# EAGLE library part TMS320C6678 (library texas-instruments)
tms320c6678_PG2p0_ac_1149p6 edit this description Auto generated by make-symbol-device-package-bsdl.ulp Rev. 44 Source: tms320c6678_PG2p0_ac_1149p6.bsm
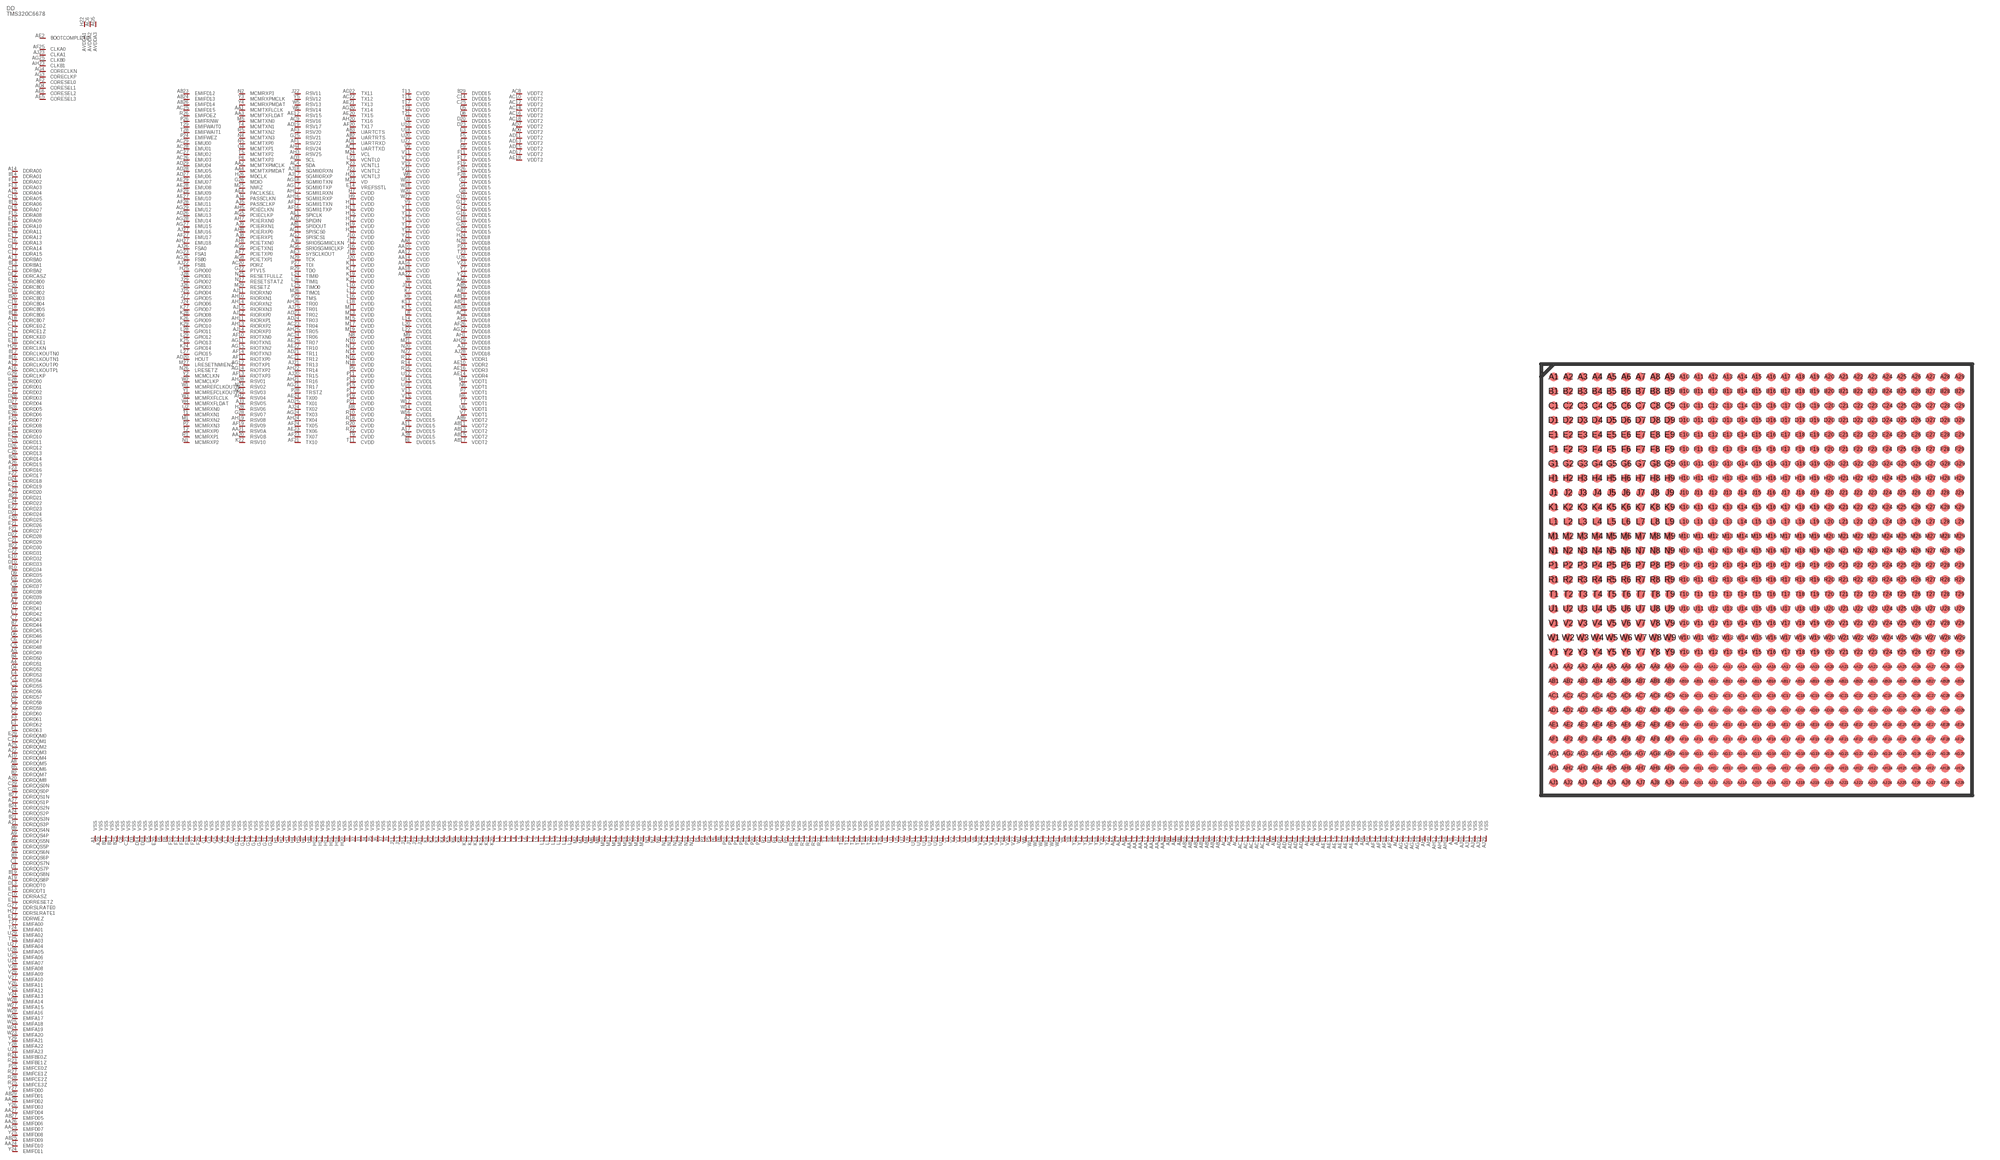
[diagram p29: symbol with the pads of FCBGA841; footprint FCBGA841]

Designator prefix DD

## TMS320C6678  [FCBGA841]
A1  VSS  pas
A2  DVDD15  pas
A3  DDRDQS6N  pas
A4  DDRD51  pas
A5  DDRD49  pas
A6  DDRDQS5N  pas
A7  DDRD40  pas
A8  DDRDQM5  pas
A9  DDRDQS4P  pas
A10  DDRDQM4  pas
A11  DVDD15  pas
A12  DDRCLKOUTP0  pas
A13  DDRBA0  pas
A14  DDRA00  pas
A15  DDRA04  pas
A16  DDRCLKOUTP1  pas
A17  DVDD15  pas
A18  DDRCB07  pas
A19  DDRDQS8P  pas
A20  DDRDQM8  pas
A21  DDRDQS3P  pas
A22  DDRDQM3  pas
A23  DDRD20  pas
A24  DDRDQS2P  pas
A25  DDRDQM2  pas
A26  DDRD15  pas
A27  DDRDQS1P  pas
A28  DVDD15  pas
A29  VSS  pas
AA1  MCMTXFLCLK  pas
AA2  MCMTXPMCLK  pas
AA3  MCMTXFLDAT  pas
AA4  MCMTXPMDAT  pas
AA5  VSS  pas
AA6  DVDD18  pas
AA7  VSS  pas
AA8  CVDD  pas
AA9  VSS  pas
AA10  CVDD  pas
AA11  VSS  pas
AA12  CVDD  pas
AA13  VSS  pas
AA14  CVDD  pas
AA15  VSS  pas
AA16  CVDD  pas
AA17  VSS  pas
AA18  CVDD  pas
AA19  VSS  pas
AA20  RSV0B  pas
AA21  RSV0A  pas
AA22  CVDD  pas
AA23  VSS  pas
AA24  EMIFD10  pas
AA25  EMIFD07  pas
AA26  EMIFD06  pas
AA27  EMIFD04  pas
AA28  VSS  pas
AA29  EMIFD02  pas
AB1  SPIDOUT  pas
AB2  UARTRTS  pas
AB3  UARTCTS  pas
AB4  VSS  pas
AB5  DVDD18  pas
AB6  VSS  pas
AB7  DVDD18  pas
AB8  VSS  pas
AB9  VDDT2  pas
AB10  VSS  pas
AB11  VDDT2  pas
AB12  VSS  pas
AB13  VDDT2  pas
AB14  VSS  pas
AB15  VDDT2  pas
AB16  VSS  pas
AB17  VDDT2  pas
AB18  VSS  pas
AB19  DVDD18  pas
AB20  VSS  pas
AB21  DVDD18  pas
AB22  VSS  pas
AB23  EMIFD12  pas
AB24  EMIFD13  pas
AB25  EMIFD09  pas
AB26  EMIFD14  pas
AB27  EMIFD05  pas
AB28  DVDD18  pas
AB29  EMIFD01  pas
AC1  UARTTXD  pas
AC2  VSS  pas
AC3  DVDD18  pas
AC4  SDA  pas
AC5  VSS  pas
AC6  AVDDA2  pas
AC7  VSS  pas
AC8  VDDT2  pas
AC9  RSV16  pas
AC10  VDDT2  pas
AC11  VSS  pas
AC12  VDDT2  pas
AC13  VSS  pas
AC14  VDDT2  pas
AC15  VSS  pas
AC16  VDDT2  pas
AC17  VSS  pas
AC18  VDDT2  pas
AC19  VSS  pas
AC20  PORZ  pas
AC21  TR12  pas
AC22  TX12  pas
AC23  TR04  pas
AC24  TR06  pas
AC25  EMIFD15  pas
AC26  EMU03  pas
AC27  EMU02  pas
AC28  EMU01  pas
AC29  EMU00  pas
AD1  UARTRXD  pas
AD2  SPIDIN  pas
AD3  SCL  pas
AD4  CORESEL1  pas
AD5  AVDDA3  pas
AD6  VSS  pas
AD7  VDDT2  pas
AD8  VSS  pas
AD9  VDDT2  pas
AD10  VSS  pas
AD11  VDDT2  pas
AD12  VSS  pas
AD13  VDDT2  pas
AD14  VSS  pas
AD15  VDDT2  pas
AD16  VSS  pas
AD17  VDDT2  pas
AD18  VSS  pas
AD19  RSV17  pas
AD20  HOUT  pas
AD21  TR11  pas
AD22  TX11  pas
AD23  TR02  pas
AD24  TR03  pas
AD25  TX01  pas
AD26  EMU13  pas
AD27  EMU06  pas
AD28  EMU05  pas
AD29  EMU04  pas
AE1  SPICLK  pas
AE2  BOOTCOMPLETE  pas
AE3  SYSCLKOUT  pas
AE4  PACLKSEL  pas
AE5  CORESEL3  pas
AE6  CORESEL2  pas
AE7  VSS  pas
AE8  VSS  pas
AE9  VSS  pas
AE10  VDDR2  pas
AE11  VSS  pas
AE12  RSV15  pas
AE13  VSS  pas
AE14  VDDR4  pas
AE15  VSS  pas
AE16  VDDR3  pas
AE17  VSS  pas
AE18  VDDT2  pas
AE19  VSS  pas
AE20  TX15  pas
AE21  TX13  pas
AE22  TR10  pas
AE23  TX06  pas
AE24  TX00  pas
AE25  TR07  pas
AE26  VSS  pas
AE27  EMU10  pas
AE28  EMU08  pas
AE29  EMU07  pas
AF1  RSV22  pas
AF2  CORESEL0  pas
AF3  RSV20  pas
AF4  VSS  pas
AF5  DVDD18  pas
AF6  VSS  pas
AF7  PCIETXP0  pas
AF8  PCIETXN0  pas
AF9  VSS  pas
AF10  RIOTXN0  pas
AF11  RIOTXP0  pas
AF12  VSS  pas
AF13  RIOTXP3  pas
AF14  RIOTXN3  pas
AF15  VSS  pas
AF16  SGMII1TXP  pas
AF17  SGMII1TXN  pas
AF18  VSS  pas
AF19  RSV09  pas
AF20  TX17  pas
AF21  TX10  pas
AF22  VSS  pas
AF23  TX07  pas
AF24  TX05  pas
AF25  CLKA0  pas
AF26  DVDD18  pas
AF27  EMU17  pas
AF28  EMU11  pas
AF29  EMU09  pas
AG1  SPISCS0  pas
AG2  SPISCS1  pas
AG3  CORECLKP  pas
AG4  CORECLKN  pas
AG5  PCIECLKP  pas
AG6  SRIOSGMIICLKP  pas
AG7  VSS  pas
AG8  PCIETXP1  pas
AG9  PCIETXN1  pas
AG10  VSS  pas
AG11  RIOTXN1  pas
AG12  RIOTXP1  pas
AG13  VSS  pas
AG14  RIOTXP2  pas
AG15  RIOTXN2  pas
AG16  VSS  pas
AG17  SGMII0TXP  pas
AG18  SGMII0TXN  pas
AG19  VSS  pas
AG20  TX14  pas
AG21  TR17  pas
AG22  DVDD18  pas
AG23  FSA1  pas
AG24  TX03  pas
AG25  CLKB0  pas
AG26  FSB0  pas
AG27  EMU15  pas
AG28  EMU14  pas
AG29  EMU12  pas
AH1  DVDD18  pas
AH2  RSV04  pas
AH3  RSV25  pas
AH4  RSV24  pas
AH5  PCIECLKN  pas
AH6  VSS  pas
AH7  PCIERXN0  pas
AH8  PCIERXP0  pas
AH9  VSS  pas
AH10  RIORXN1  pas
AH11  RIORXP1  pas
AH12  VSS  pas
AH13  RIORXP2  pas
AH14  RIORXN2  pas
AH15  VSS  pas
AH16  SGMII1RXP  pas
AH17  SGMII1RXN  pas
AH18  VSS  pas
AH19  RSV08  pas
AH20  TX16  pas
AH21  TR16  pas
AH22  TR14  pas
AH23  CLKB1  pas
AH24  TX04  pas
AH25  TR05  pas
AH26  TR00  pas
AH27  EMU18  pas
AH28  RSV01  pas
AH29  DVDD18  pas
AJ1  VSS  pas
AJ2  DVDD18  pas
AJ3  RSV05  pas
AJ4  PASSCLKN  pas
AJ5  PASSCLKP  pas
AJ6  SRIOSGMIICLKN  pas
AJ7  VSS  pas
AJ8  PCIERXP1  pas
AJ9  PCIERXN1  pas
AJ10  VSS  pas
AJ11  RIORXN0  pas
AJ12  RIORXP0  pas
AJ13  VSS  pas
AJ14  RIORXP3  pas
AJ15  RIORXN3  pas
AJ16  VSS  pas
AJ17  SGMII0RXP  pas
AJ18  SGMII0RXN  pas
AJ19  VSS  pas
AJ20  TR15  pas
AJ21  TR13  pas
AJ22  FSB1  pas
AJ23  CLKA1  pas
AJ24  TX02  pas
AJ25  TR01  pas
AJ26  FSA0  pas
AJ27  EMU16  pas
AJ28  DVDD18  pas
AJ29  VSS  pas
B1  DVDD15  pas
B2  DDRDQM7  pas
B3  DDRDQS6P  pas
B4  DDRD50  pas
B5  DDRDQM6  pas
B6  DDRDQS5P  pas
B7  DDRD44  pas
B8  DDRD38  pas
B9  DDRDQS4N  pas
B10  DDRD34  pas
B11  VSS  pas
B12  DDRCLKOUTN0  pas
B13  DDRBA1  pas
B14  DDRA01  pas
B15  DDRA06  pas
B16  DDRCLKOUTN1  pas
B17  VSS  pas
B18  DDRCB06  pas
B19  DDRDQS8N  pas
B20  DDRCB03  pas
B21  DDRDQS3N  pas
B22  DDRD30  pas
B23  DDRD21  pas
B24  DDRDQS2N  pas
B25  VSS  pas
B26  DDRD14  pas
B27  DDRDQS1N  pas
B28  DDRD05  pas
B29  DVDD15  pas
C1  DDRDQS7N  pas
C2  DDRD59  pas
C3  DDRD55  pas
C4  DDRD54  pas
C5  DDRD48  pas
C6  DDRD47  pas
C7  DDRD43  pas
C8  VSS  pas
C9  DDRD37  pas
C10  DDRRASZ  pas
C11  DDRCE0Z  pas
C12  DDRCE1Z  pas
C13  DDRBA2  pas
C14  DVDD15  pas
C15  DDRA05  pas
C16  DDRA13  pas
C17  DDRA15  pas
C18  DDRCB05  pas
C19  DDRCB04  pas
C20  DDRCB01  pas
C21  DDRD29  pas
C22  DDRD31  pas
C23  VSS  pas
C24  DDRD22  pas
C25  DVDD15  pas
C26  DDRD13  pas
C27  DDRDQM1  pas
C28  DDRDQS0P  pas
C29  DDRDQS0N  pas
D1  DDRDQS7P  pas
D2  DDRD57  pas
D3  VSS  pas
D4  DDRD52  pas
D5  DVDD15  pas
D6  DDRD46  pas
D7  DDRD41  pas
D8  DVDD15  pas
D9  DDRD35  pas
D10  DDRD33  pas
D11  DDRCKE0  pas
D12  DDRCASZ  pas
D13  DDRODT0  pas
D14  VSS  pas
D15  DDRA07  pas
D16  DDRA11  pas
D17  DDRA14  pas
D18  VSS  pas
D19  DDRCB02  pas
D20  DVDD15  pas
D21  DDRD24  pas
D22  DDRD28  pas
D23  DVDD15  pas
D24  DDRD18  pas
D25  DDRD11  pas
D26  DDRD12  pas
D27  DDRD04  pas
D28  DDRD03  pas
D29  DDRD01  pas
E1  DDRD62  pas
E2  DDRD58  pas
E3  DVDD15  pas
E4  DDRD53  pas
E5  VSS  pas
E6  DDRD45  pas
E7  DDRD42  pas
E8  DDRD39  pas
E9  DDRD36  pas
E10  DDRD32  pas
E11  DDRRESETZ  pas
E12  DDRWEZ  pas
E13  DDRODT1  pas
E14  VREFSSTL  pas
E15  DDRA09  pas
E16  DDRA10  pas
E17  DDRA12  pas
E18  DDRCKE1  pas
E19  DDRCB00  pas
E20  VSS  pas
E21  DDRD26  pas
E22  DDRD23  pas
E23  DDRD19  pas
E24  DDRD09  pas
E25  DDRD10  pas
E26  DDRD06  pas
E27  DDRD02  pas
E28  DDRD00  pas
E29  DDRDQM0  pas
F1  DDRD63  pas
F2  DDRD60  pas
F3  DDRD61  pas
F4  DDRD56  pas
F5  DVDD15  pas
F6  VSS  pas
F7  DVDD15  pas
F8  VSS  pas
F9  DVDD15  pas
F10  VSS  pas
F11  DVDD15  pas
F12  VSS  pas
F13  DDRA03  pas
F14  DDRA02  pas
F15  DDRA08  pas
F16  VSS  pas
F17  DVDD15  pas
F18  VSS  pas
F19  DVDD15  pas
F20  DDRD25  pas
F21  DDRD27  pas
F22  DDRD17  pas
F23  DDRD16  pas
F24  DDRD08  pas
F25  DDRD07  pas
F26  DVDD15  pas
F27  VSS  pas
F28  DVDD15  pas
F29  VSS  pas
G1  VSS  pas
G2  DVDD15  pas
G3  VSS  pas
G4  DVDD15  pas
G5  VSS  pas
G6  VSS  pas
G7  VSS  pas
G8  DVDD15  pas
G9  VSS  pas
G10  DVDD15  pas
G11  VSS  pas
G12  DVDD15  pas
G13  VSS  pas
G14  DVDD15  pas
G15  VSS  pas
G16  DVDD15  pas
G17  VSS  pas
G18  DVDD15  pas
G19  VSS  pas
G20  DVDD15  pas
G21  VSS  pas
G22  PTV15  pas
G23  DVDD15  pas
G24  VSS  pas
G25  RSV21  pas
G26  MDIO  pas
G27  DDRSLRATE0  pas
G28  RSV07  pas
G29  DDRCLKP  pas
H1  VSS  pas
H2  VSS  pas
H3  VSS  pas
H4  VSS  pas
H5  VSS  pas
H6  VSS  pas
H7  CVDD  pas
H8  VSS  pas
H9  CVDD  pas
H10  VSS  pas
H11  CVDD  pas
H12  VSS  pas
H13  CVDD  pas
H14  VSS  pas
H15  CVDD  pas
H16  VSS  pas
H17  CVDD  pas
H18  VSS  pas
H19  CVDD  pas
H20  VSS  pas
H21  CVDD  pas
H22  AVDDA1  pas
H23  VCNTL3  pas
H24  DVDD18  pas
H25  GPIO00  pas
H26  MDCLK  pas
H27  DDRSLRATE1  pas
H28  RSV06  pas
H29  DDRCLKN  pas
J1  VSS  pas
J2  VSS  pas
J3  VSS  pas
J4  VSS  pas
J5  VSS  pas
J6  VSS  pas
J7  VSS  pas
J8  CVDD1  pas
J9  VSS  pas
J10  CVDD  pas
J11  VSS  pas
J12  CVDD  pas
J13  VSS  pas
J14  CVDD1  pas
J15  VSS  pas
J16  CVDD  pas
J17  VSS  pas
J18  CVDD  pas
J19  VSS  pas
J20  CVDD  pas
J21  VSS  pas
J22  RSV11  pas
J23  VCNTL2  pas
J24  GPIO06  pas
J25  GPIO04  pas
J26  GPIO03  pas
J27  GPIO05  pas
J28  GPIO01  pas
J29  GPIO02  pas
K1  VSS  pas
K2  VSS  pas
K3  VSS  pas
K4  VSS  pas
K5  VSS  pas
K6  VSS  pas
K7  CVDD1  pas
K8  VSS  pas
K9  CVDD1  pas
K10  VSS  pas
K11  CVDD  pas
K12  VSS  pas
K13  CVDD1  pas
K14  VSS  pas
K15  CVDD1  pas
K16  VSS  pas
K17  CVDD  pas
K18  VSS  pas
K19  CVDD  pas
K20  VSS  pas
K21  CVDD  pas
K22  RSV10  pas
K23  VCNTL1  pas
K24  GPIO14  pas
K25  GPIO13  pas
K26  GPIO09  pas
K27  GPIO07  pas
K28  GPIO08  pas
K29  GPIO10  pas
L1  VSS  pas
L2  VSS  pas
L3  VSS  pas
L4  VSS  pas
L5  VSS  pas
L6  VSS  pas
L7  VSS  pas
L8  CVDD1  pas
L9  VSS  pas
L10  CVDD  pas
L11  VSS  pas
L12  CVDD  pas
L13  VSS  pas
L14  CVDD1  pas
L15  VSS  pas
L16  CVDD  pas
L17  VSS  pas
L18  CVDD  pas
L19  VSS  pas
L20  CVDD1  pas
L21  VSS  pas
L22  CVDD1  pas
L23  VCNTL0  pas
L24  TIMI0  pas
L25  TIMO0  pas
L26  TIMI1  pas
L27  GPIO15  pas
L28  GPIO11  pas
L29  GPIO12  pas
M1  MCMRXN2  pas
M2  VSS  pas
M3  VSS  pas
M4  VSS  pas
M5  MCMTXN0  pas
M6  VSS  pas
M7  VDDT1  pas
M8  VSS  pas
M9  CVDD1  pas
M10  VSS  pas
M11  CVDD  pas
M12  VSS  pas
M13  CVDD  pas
M14  VSS  pas
M15  CVDD  pas
M16  VSS  pas
M17  CVDD  pas
M18  VSS  pas
M19  CVDD  pas
M20  VSS  pas
M21  CVDD1  pas
M22  VSS  pas
M23  VD  pas
M24  VCL  pas
M25  NMIZ  pas
M26  TIMO1  pas
M27  LRESETNMIENZ  pas
M28  VSS  pas
M29  RESETZ  pas
N1  MCMRXP2  pas
N2  MCMRXP3  pas
N3  VSS  pas
N4  MCMTXN3  pas
N5  MCMTXP0  pas
N6  VDDT1  pas
N7  VSS  pas
N8  CVDD  pas
N9  VSS  pas
N10  CVDD  pas
N11  VSS  pas
N12  CVDD  pas
N13  VSS  pas
N14  CVDD  pas
N15  VSS  pas
N16  CVDD  pas
N17  VSS  pas
N18  CVDD  pas
N19  VSS  pas
N20  CVDD1  pas
N21  VSS  pas
N22  CVDD1  pas
N23  RSV03  pas
N24  RSV02  pas
N25  RESETFULLZ  pas
N26  LRESETZ  pas
N27  RESETSTATZ  pas
N28  DVDD18  pas
N29  TCK  pas
P1  VSS  pas
P2  MCMRXN3  pas
P3  VSS  pas
P4  MCMTXP3  pas
P5  VSS  pas
P6  VSS  pas
P7  VDDT1  pas
P8  VSS  pas
P9  CVDD  pas
P10  VSS  pas
P11  CVDD  pas
P12  VSS  pas
P13  CVDD  pas
P14  VSS  pas
P15  CVDD  pas
P16  VSS  pas
P17  CVDD  pas
P18  VSS  pas
P19  CVDD  pas
P20  VSS  pas
P21  CVDD  pas
P22  VSS  pas
P23  DVDD18  pas
P24  EMIFWEZ  pas
P25  EMIFCE0Z  pas
P26  EMIFRNW  pas
P27  TDI  pas
P28  TRSTZ  pas
P29  TMS  pas
R1  MCMRXP1  pas
R2  VSS  pas
R3  VSS  pas
R4  VSS  pas
R5  MCMTXN2  pas
R6  VDDT1  pas
R7  VSS  pas
R8  CVDD  pas
R9  VSS  pas
R10  CVDD  pas
R11  VSS  pas
R12  CVDD1  pas
R13  VSS  pas
R14  CVDD1  pas
R15  VSS  pas
R16  CVDD1  pas
R17  VSS  pas
R18  CVDD  pas
R19  VSS  pas
R20  CVDD  pas
R21  VSS  pas
R22  CVDD  pas
R23  EMIFBE1Z  pas
R24  EMIFBE0Z  pas
R25  EMIFCE3Z  pas
R26  EMIFOEZ  pas
R27  EMIFCE1Z  pas
R28  EMIFCE2Z  pas
R29  TDO  pas
T1  MCMRXN1  pas
T2  MCMRXP0  pas
T3  VSS  pas
T4  MCMTXN1  pas
T5  MCMTXP2  pas
T6  VSS  pas
T7  VDDT1  pas
T8  VSS  pas
T9  CVDD  pas
T10  VSS  pas
T11  CVDD  pas
T12  VSS  pas
T13  CVDD  pas
T14  VSS  pas
T15  CVDD  pas
T16  VSS  pas
T17  CVDD  pas
T18  VSS  pas
T19  CVDD  pas
T20  VSS  pas
T21  CVDD  pas
T22  VSS  pas
T23  DVDD18  pas
T24  EMIFA01  pas
T25  EMIFA03  pas
T26  VSS  pas
T27  EMIFA00  pas
T28  EMIFWAIT1  pas
T29  EMIFWAIT0  pas
U1  VSS  pas
U2  MCMRXN0  pas
U3  VSS  pas
U4  MCMTXP1  pas
U5  VSS  pas
U6  VDDT1  pas
U7  VSS  pas
U8  CVDD  pas
U9  VSS  pas
U10  CVDD  pas
U11  VSS  pas
U12  CVDD1  pas
U13  VSS  pas
U14  CVDD1  pas
U15  VSS  pas
U16  CVDD1  pas
U17  VSS  pas
U18  CVDD  pas
U19  VSS  pas
U20  CVDD  pas
U21  VSS  pas
U22  CVDD  pas
U23  EMIFA23  pas
U24  EMIFA07  pas
U25  EMIFA06  pas
U26  DVDD18  pas
U27  EMIFA04  pas
U28  EMIFA05  pas
U29  EMIFA02  pas
V1  VSS  pas
V2  VSS  pas
V3  VSS  pas
V4  VSS  pas
V5  VDDR1  pas
V6  VSS  pas
V7  VDDT1  pas
V8  VSS  pas
V9  CVDD  pas
V10  VSS  pas
V11  CVDD  pas
V12  VSS  pas
V13  CVDD1  pas
V14  VSS  pas
V15  CVDD1  pas
V16  VSS  pas
V17  CVDD  pas
V18  VSS  pas
V19  CVDD  pas
V20  VSS  pas
V21  CVDD  pas
V22  VSS  pas
V23  DVDD18  pas
V24  EMIFA13  pas
V25  EMIFA12  pas
V26  EMIFA11  pas
V27  EMIFA10  pas
V28  EMIFA08  pas
V29  EMIFA09  pas
W1  MCMREFCLKOUTN  pas
W2  MCMCLKP  pas
W3  MCMRXFLCLK  pas
W4  MCMRXFLDAT  pas
W5  RSV13  pas
W6  RSV14  pas
W7  VSS  pas
W8  CVDD  pas
W9  VSS  pas
W10  CVDD  pas
W11  VSS  pas
W12  CVDD1  pas
W13  VSS  pas
W14  CVDD1  pas
W15  VSS  pas
W16  CVDD1  pas
W17  VSS  pas
W18  CVDD  pas
W19  VSS  pas
W20  CVDD  pas
W21  VSS  pas
W22  CVDD  pas
W23  EMIFA20  pas
W24  EMIFA19  pas
W25  EMIFA18  pas
W26  EMIFA17  pas
W27  EMIFA15  pas
W28  EMIFA14  pas
W29  EMIFA16  pas
Y1  MCMREFCLKOUTP  pas
Y2  MCMCLKN  pas
Y3  MCMRXPMCLK  pas
Y4  MCMRXPMDAT  pas
Y5  RSV12  pas
Y6  VSS  pas
Y7  DVDD18  pas
Y8  VSS  pas
Y9  CVDD  pas
Y10  VSS  pas
Y11  CVDD  pas
Y12  VSS  pas
Y13  CVDD  pas
Y14  VSS  pas
Y15  CVDD  pas
Y16  VSS  pas
Y17  CVDD  pas
Y18  VSS  pas
Y19  CVDD  pas
Y20  VSS  pas
Y21  CVDD  pas
Y22  VSS  pas
Y23  DVDD18  pas
Y24  EMIFD11  pas
Y25  EMIFD08  pas
Y26  EMIFD03  pas
Y27  EMIFD00  pas
Y28  EMIFA22  pas
Y29  EMIFA21  pas

## Footprint FCBGA841 (pad centres in mm)
tms320c6678_PG2p0_ac_1149p6 edit this description Auto generated by make-symbol-device-package-bsdl.ulp Rev. 44 Source: tms320c6678_PG2p0_ac_1149p6.bsm
smd 0.5 x 0.5: A1 -11.2,11.2; A2 -10.4,11.2; A3 -9.6,11.2; A4 -8.8,11.2; A5 -8,11.2; A6 -7.2,11.2; A7 -6.4,11.2; A8 -5.6,11.2; A9 -4.8,11.2; A10 -4,11.2; A11 -3.2,11.2; A12 -2.4,11.2; A13 -1.6,11.2; A14 -0.8,11.2; A15 0,11.2; A16 0.8,11.2; A17 1.6,11.2; A18 2.4,11.2; A19 3.2,11.2; A20 4,11.2; A21 4.8,11.2; A22 5.6,11.2; A23 6.4,11.2; A24 7.2,11.2; A25 8,11.2; A26 8.8,11.2; A27 9.6,11.2; A28 10.4,11.2; A29 11.2,11.2; AA1 -11.2,-4.8; AA2 -10.4,-4.8; AA3 -9.6,-4.8; AA4 -8.8,-4.8; AA5 -8,-4.8; AA6 -7.2,-4.8; AA7 -6.4,-4.8; AA8 -5.6,-4.8; AA9 -4.8,-4.8; AA10 -4,-4.8; AA11 -3.2,-4.8; AA12 -2.4,-4.8; AA13 -1.6,-4.8; AA14 -0.8,-4.8; AA15 0,-4.8; AA16 0.8,-4.8; AA17 1.6,-4.8; AA18 2.4,-4.8; AA19 3.2,-4.8; AA20 4,-4.8; AA21 4.8,-4.8; AA22 5.6,-4.8; AA23 6.4,-4.8; AA24 7.2,-4.8; AA25 8,-4.8; AA26 8.8,-4.8; AA27 9.6,-4.8; AA28 10.4,-4.8; AA29 11.2,-4.8; AB1 -11.2,-5.6; AB2 -10.4,-5.6; AB3 -9.6,-5.6; AB4 -8.8,-5.6; AB5 -8,-5.6; AB6 -7.2,-5.6; AB7 -6.4,-5.6; AB8 -5.6,-5.6; AB9 -4.8,-5.6; AB10 -4,-5.6; AB11 -3.2,-5.6; AB12 -2.4,-5.6; AB13 -1.6,-5.6; AB14 -0.8,-5.6; AB15 0,-5.6; AB16 0.8,-5.6; AB17 1.6,-5.6; AB18 2.4,-5.6; AB19 3.2,-5.6; AB20 4,-5.6; AB21 4.8,-5.6; AB22 5.6,-5.6; AB23 6.4,-5.6; AB24 7.2,-5.6; AB25 8,-5.6; AB26 8.8,-5.6; AB27 9.6,-5.6; AB28 10.4,-5.6; AB29 11.2,-5.6; AC1 -11.2,-6.4; AC2 -10.4,-6.4; AC3 -9.6,-6.4; AC4 -8.8,-6.4; AC5 -8,-6.4; AC6 -7.2,-6.4; AC7 -6.4,-6.4; AC8 -5.6,-6.4; AC9 -4.8,-6.4; AC10 -4,-6.4; AC11 -3.2,-6.4; AC12 -2.4,-6.4; AC13 -1.6,-6.4; AC14 -0.8,-6.4; AC15 0,-6.4; AC16 0.8,-6.4; AC17 1.6,-6.4; AC18 2.4,-6.4; AC19 3.2,-6.4; AC20 4,-6.4; AC21 4.8,-6.4; AC22 5.6,-6.4; AC23 6.4,-6.4; AC24 7.2,-6.4; AC25 8,-6.4; AC26 8.8,-6.4; AC27 9.6,-6.4; AC28 10.4,-6.4; AC29 11.2,-6.4; AD1 -11.2,-7.2; AD2 -10.4,-7.2; AD3 -9.6,-7.2; AD4 -8.8,-7.2; AD5 -8,-7.2; AD6 -7.2,-7.2; AD7 -6.4,-7.2; AD8 -5.6,-7.2; AD9 -4.8,-7.2; AD10 -4,-7.2; AD11 -3.2,-7.2; AD12 -2.4,-7.2; AD13 -1.6,-7.2; AD14 -0.8,-7.2; AD15 0,-7.2; AD16 0.8,-7.2; AD17 1.6,-7.2; AD18 2.4,-7.2; AD19 3.2,-7.2; AD20 4,-7.2; AD21 4.8,-7.2; AD22 5.6,-7.2; AD23 6.4,-7.2; AD24 7.2,-7.2; AD25 8,-7.2; AD26 8.8,-7.2; AD27 9.6,-7.2; AD28 10.4,-7.2; AD29 11.2,-7.2; AE1 -11.2,-8; AE2 -10.4,-8; AE3 -9.6,-8; AE4 -8.8,-8; AE5 -8,-8; AE6 -7.2,-8; AE7 -6.4,-8; AE8 -5.6,-8; AE9 -4.8,-8; AE10 -4,-8; AE11 -3.2,-8; AE12 -2.4,-8; AE13 -1.6,-8; AE14 -0.8,-8; AE15 0,-8; AE16 0.8,-8; AE17 1.6,-8; AE18 2.4,-8; AE19 3.2,-8; AE20 4,-8; AE21 4.8,-8; AE22 5.6,-8; AE23 6.4,-8; AE24 7.2,-8; AE25 8,-8; AE26 8.8,-8; AE27 9.6,-8; AE28 10.4,-8; AE29 11.2,-8; AF1 -11.2,-8.8; AF2 -10.4,-8.8; AF3 -9.6,-8.8; AF4 -8.8,-8.8; AF5 -8,-8.8; AF6 -7.2,-8.8; AF7 -6.4,-8.8; AF8 -5.6,-8.8; AF9 -4.8,-8.8; AF10 -4,-8.8; AF11 -3.2,-8.8; AF12 -2.4,-8.8; AF13 -1.6,-8.8; AF14 -0.8,-8.8; AF15 0,-8.8; AF16 0.8,-8.8; AF17 1.6,-8.8; AF18 2.4,-8.8; AF19 3.2,-8.8; AF20 4,-8.8; AF21 4.8,-8.8; AF22 5.6,-8.8; AF23 6.4,-8.8; AF24 7.2,-8.8; AF25 8,-8.8; AF26 8.8,-8.8; AF27 9.6,-8.8; AF28 10.4,-8.8; AF29 11.2,-8.8; AG1 -11.2,-9.6; AG2 -10.4,-9.6; AG3 -9.6,-9.6; AG4 -8.8,-9.6; AG5 -8,-9.6; AG6 -7.2,-9.6; AG7 -6.4,-9.6; AG8 -5.6,-9.6; AG9 -4.8,-9.6; AG10 -4,-9.6; AG11 -3.2,-9.6; AG12 -2.4,-9.6; AG13 -1.6,-9.6; AG14 -0.8,-9.6; AG15 0,-9.6; AG16 0.8,-9.6; AG17 1.6,-9.6; AG18 2.4,-9.6; AG19 3.2,-9.6; AG20 4,-9.6; AG21 4.8,-9.6; AG22 5.6,-9.6; AG23 6.4,-9.6; AG24 7.2,-9.6; AG25 8,-9.6; AG26 8.8,-9.6; AG27 9.6,-9.6; AG28 10.4,-9.6; AG29 11.2,-9.6; AH1 -11.2,-10.4; AH2 -10.4,-10.4; AH3 -9.6,-10.4; AH4 -8.8,-10.4; AH5 -8,-10.4; AH6 -7.2,-10.4; AH7 -6.4,-10.4; AH8 -5.6,-10.4; AH9 -4.8,-10.4; AH10 -4,-10.4; AH11 -3.2,-10.4; AH12 -2.4,-10.4; AH13 -1.6,-10.4; AH14 -0.8,-10.4; AH15 0,-10.4; AH16 0.8,-10.4; AH17 1.6,-10.4; AH18 2.4,-10.4; AH19 3.2,-10.4; AH20 4,-10.4; AH21 4.8,-10.4; AH22 5.6,-10.4; AH23 6.4,-10.4; AH24 7.2,-10.4; AH25 8,-10.4; AH26 8.8,-10.4; AH27 9.6,-10.4; AH28 10.4,-10.4; AH29 11.2,-10.4; AJ1 -11.2,-11.2; AJ2 -10.4,-11.2; AJ3 -9.6,-11.2; AJ4 -8.8,-11.2; AJ5 -8,-11.2; AJ6 -7.2,-11.2; AJ7 -6.4,-11.2; AJ8 -5.6,-11.2; AJ9 -4.8,-11.2; AJ10 -4,-11.2; AJ11 -3.2,-11.2; AJ12 -2.4,-11.2; AJ13 -1.6,-11.2; AJ14 -0.8,-11.2; AJ15 0,-11.2; AJ16 0.8,-11.2; AJ17 1.6,-11.2; AJ18 2.4,-11.2; AJ19 3.2,-11.2; AJ20 4,-11.2; AJ21 4.8,-11.2; AJ22 5.6,-11.2; AJ23 6.4,-11.2; AJ24 7.2,-11.2; AJ25 8,-11.2; AJ26 8.8,-11.2; AJ27 9.6,-11.2; AJ28 10.4,-11.2; AJ29 11.2,-11.2; B1 -11.2,10.4; B2 -10.4,10.4; B3 -9.6,10.4; B4 -8.8,10.4; B5 -8,10.4; B6 -7.2,10.4; B7 -6.4,10.4; B8 -5.6,10.4; B9 -4.8,10.4; B10 -4,10.4; B11 -3.2,10.4; B12 -2.4,10.4; B13 -1.6,10.4; B14 -0.8,10.4; B15 0,10.4; B16 0.8,10.4; B17 1.6,10.4; B18 2.4,10.4; B19 3.2,10.4; B20 4,10.4; B21 4.8,10.4; B22 5.6,10.4; B23 6.4,10.4; B24 7.2,10.4; B25 8,10.4; B26 8.8,10.4; B27 9.6,10.4; B28 10.4,10.4; B29 11.2,10.4; C1 -11.2,9.6; C2 -10.4,9.6; C3 -9.6,9.6; C4 -8.8,9.6; C5 -8,9.6; C6 -7.2,9.6; C7 -6.4,9.6; C8 -5.6,9.6; C9 -4.8,9.6; C10 -4,9.6; C11 -3.2,9.6; C12 -2.4,9.6; C13 -1.6,9.6; C14 -0.8,9.6; C15 0,9.6; C16 0.8,9.6; C17 1.6,9.6; C18 2.4,9.6; C19 3.2,9.6; C20 4,9.6; C21 4.8,9.6; C22 5.6,9.6; C23 6.4,9.6; C24 7.2,9.6; C25 8,9.6; C26 8.8,9.6; C27 9.6,9.6; C28 10.4,9.6; C29 11.2,9.6; D1 -11.2,8.8; D2 -10.4,8.8; D3 -9.6,8.8; D4 -8.8,8.8; D5 -8,8.8; D6 -7.2,8.8; D7 -6.4,8.8; D8 -5.6,8.8; D9 -4.8,8.8; D10 -4,8.8; D11 -3.2,8.8; D12 -2.4,8.8; D13 -1.6,8.8; D14 -0.8,8.8; D15 0,8.8; D16 0.8,8.8; D17 1.6,8.8; D18 2.4,8.8; D19 3.2,8.8; D20 4,8.8; D21 4.8,8.8; D22 5.6,8.8; D23 6.4,8.8; D24 7.2,8.8; D25 8,8.8; D26 8.8,8.8; D27 9.6,8.8; D28 10.4,8.8; D29 11.2,8.8; E1 -11.2,8; E2 -10.4,8; E3 -9.6,8; E4 -8.8,8; E5 -8,8; E6 -7.2,8; E7 -6.4,8; E8 -5.6,8; E9 -4.8,8; E10 -4,8; E11 -3.2,8; E12 -2.4,8; E13 -1.6,8; E14 -0.8,8; E15 0,8; E16 0.8,8; E17 1.6,8; E18 2.4,8; E19 3.2,8; E20 4,8; E21 4.8,8; E22 5.6,8; E23 6.4,8; E24 7.2,8; E25 8,8; E26 8.8,8; E27 9.6,8; E28 10.4,8; E29 11.2,8; F1 -11.2,7.2; F2 -10.4,7.2; F3 -9.6,7.2; F4 -8.8,7.2; F5 -8,7.2; F6 -7.2,7.2; F7 -6.4,7.2; F8 -5.6,7.2; F9 -4.8,7.2; F10 -4,7.2; F11 -3.2,7.2; F12 -2.4,7.2; F13 -1.6,7.2; F14 -0.8,7.2; F15 0,7.2; F16 0.8,7.2; F17 1.6,7.2; F18 2.4,7.2; F19 3.2,7.2; F20 4,7.2; F21 4.8,7.2; F22 5.6,7.2; F23 6.4,7.2; F24 7.2,7.2; F25 8,7.2; F26 8.8,7.2; F27 9.6,7.2; F28 10.4,7.2; F29 11.2,7.2; G1 -11.2,6.4; G2 -10.4,6.4; G3 -9.6,6.4; G4 -8.8,6.4; G5 -8,6.4; G6 -7.2,6.4; G7 -6.4,6.4; G8 -5.6,6.4; G9 -4.8,6.4; G10 -4,6.4; G11 -3.2,6.4; G12 -2.4,6.4; G13 -1.6,6.4; G14 -0.8,6.4; G15 0,6.4; G16 0.8,6.4; G17 1.6,6.4; G18 2.4,6.4; G19 3.2,6.4; G20 4,6.4; G21 4.8,6.4; G22 5.6,6.4; G23 6.4,6.4; G24 7.2,6.4; G25 8,6.4; G26 8.8,6.4; G27 9.6,6.4; G28 10.4,6.4; G29 11.2,6.4; H1 -11.2,5.6; H2 -10.4,5.6; H3 -9.6,5.6; H4 -8.8,5.6; H5 -8,5.6; H6 -7.2,5.6; H7 -6.4,5.6; H8 -5.6,5.6; H9 -4.8,5.6; H10 -4,5.6; H11 -3.2,5.6; H12 -2.4,5.6; H13 -1.6,5.6; H14 -0.8,5.6; H15 0,5.6; H16 0.8,5.6; H17 1.6,5.6; H18 2.4,5.6; H19 3.2,5.6; H20 4,5.6; H21 4.8,5.6; H22 5.6,5.6; H23 6.4,5.6; H24 7.2,5.6; H25 8,5.6; H26 8.8,5.6; H27 9.6,5.6; H28 10.4,5.6; H29 11.2,5.6; J1 -11.2,4.8; J2 -10.4,4.8; J3 -9.6,4.8; J4 -8.8,4.8; J5 -8,4.8; J6 -7.2,4.8; J7 -6.4,4.8; J8 -5.6,4.8; J9 -4.8,4.8; J10 -4,4.8; J11 -3.2,4.8; J12 -2.4,4.8; J13 -1.6,4.8; J14 -0.8,4.8; J15 0,4.8; J16 0.8,4.8; J17 1.6,4.8; J18 2.4,4.8; J19 3.2,4.8; J20 4,4.8; J21 4.8,4.8; J22 5.6,4.8; J23 6.4,4.8; J24 7.2,4.8; J25 8,4.8; J26 8.8,4.8; J27 9.6,4.8; J28 10.4,4.8; J29 11.2,4.8; K1 -11.2,4; K2 -10.4,4; K3 -9.6,4; K4 -8.8,4; K5 -8,4; K6 -7.2,4; K7 -6.4,4; K8 -5.6,4; K9 -4.8,4; K10 -4,4; K11 -3.2,4; K12 -2.4,4; K13 -1.6,4; K14 -0.8,4; K15 0,4; K16 0.8,4; K17 1.6,4; K18 2.4,4; K19 3.2,4; K20 4,4; K21 4.8,4; K22 5.6,4; K23 6.4,4; K24 7.2,4; K25 8,4; K26 8.8,4; K27 9.6,4; K28 10.4,4; K29 11.2,4; L1 -11.2,3.2; L2 -10.4,3.2; L3 -9.6,3.2; L4 -8.8,3.2; L5 -8,3.2; L6 -7.2,3.2; L7 -6.4,3.2; L8 -5.6,3.2; L9 -4.8,3.2; L10 -4,3.2; L11 -3.2,3.2; L12 -2.4,3.2; L13 -1.6,3.2; L14 -0.8,3.2; L15 0,3.2; L16 0.8,3.2; L17 1.6,3.2; L18 2.4,3.2; L19 3.2,3.2; L20 4,3.2; L21 4.8,3.2; L22 5.6,3.2; L23 6.4,3.2; L24 7.2,3.2; L25 8,3.2; L26 8.8,3.2; L27 9.6,3.2; L28 10.4,3.2; L29 11.2,3.2; M1 -11.2,2.4; M2 -10.4,2.4; M3 -9.6,2.4; M4 -8.8,2.4; M5 -8,2.4; M6 -7.2,2.4; M7 -6.4,2.4; M8 -5.6,2.4; M9 -4.8,2.4; M10 -4,2.4; M11 -3.2,2.4; M12 -2.4,2.4; M13 -1.6,2.4; M14 -0.8,2.4; M15 0,2.4; M16 0.8,2.4; M17 1.6,2.4; M18 2.4,2.4; M19 3.2,2.4; M20 4,2.4; M21 4.8,2.4; M22 5.6,2.4; M23 6.4,2.4; M24 7.2,2.4; M25 8,2.4; M26 8.8,2.4; M27 9.6,2.4; M28 10.4,2.4; M29 11.2,2.4; N1 -11.2,1.6; N2 -10.4,1.6; N3 -9.6,1.6; N4 -8.8,1.6; N5 -8,1.6; N6 -7.2,1.6; N7 -6.4,1.6; N8 -5.6,1.6; N9 -4.8,1.6; N10 -4,1.6; N11 -3.2,1.6; N12 -2.4,1.6; N13 -1.6,1.6; N14 -0.8,1.6; N15 0,1.6; N16 0.8,1.6; N17 1.6,1.6; N18 2.4,1.6; N19 3.2,1.6; N20 4,1.6; N21 4.8,1.6; N22 5.6,1.6; N23 6.4,1.6; N24 7.2,1.6; N25 8,1.6; N26 8.8,1.6; N27 9.6,1.6; N28 10.4,1.6; N29 11.2,1.6; P1 -11.2,0.8; P2 -10.4,0.8; P3 -9.6,0.8; P4 -8.8,0.8; P5 -8,0.8; P6 -7.2,0.8; P7 -6.4,0.8; P8 -5.6,0.8; P9 -4.8,0.8; P10 -4,0.8; P11 -3.2,0.8; P12 -2.4,0.8; P13 -1.6,0.8; P14 -0.8,0.8; P15 0,0.8; P16 0.8,0.8; P17 1.6,0.8; P18 2.4,0.8; P19 3.2,0.8; P20 4,0.8; P21 4.8,0.8; P22 5.6,0.8; P23 6.4,0.8; P24 7.2,0.8; P25 8,0.8; P26 8.8,0.8; P27 9.6,0.8; P28 10.4,0.8; P29 11.2,0.8; R1 -11.2,0; R2 -10.4,0; R3 -9.6,0; R4 -8.8,0; R5 -8,0; R6 -7.2,0; R7 -6.4,0; R8 -5.6,0; R9 -4.8,0; R10 -4,0; R11 -3.2,0; R12 -2.4,0; R13 -1.6,0; R14 -0.8,0; R15 0,0; R16 0.8,0; R17 1.6,0; R18 2.4,0; R19 3.2,0; R20 4,0; R21 4.8,0; R22 5.6,0; R23 6.4,0; R24 7.2,0; R25 8,0; R26 8.8,0; R27 9.6,0; R28 10.4,0; R29 11.2,0; T1 -11.2,-0.8; T2 -10.4,-0.8; T3 -9.6,-0.8; T4 -8.8,-0.8; T5 -8,-0.8; T6 -7.2,-0.8; T7 -6.4,-0.8; T8 -5.6,-0.8; T9 -4.8,-0.8; T10 -4,-0.8; T11 -3.2,-0.8; T12 -2.4,-0.8; T13 -1.6,-0.8; T14 -0.8,-0.8; T15 0,-0.8; T16 0.8,-0.8; T17 1.6,-0.8; T18 2.4,-0.8; T19 3.2,-0.8; T20 4,-0.8; T21 4.8,-0.8; T22 5.6,-0.8; T23 6.4,-0.8; T24 7.2,-0.8; T25 8,-0.8; T26 8.8,-0.8; T27 9.6,-0.8; T28 10.4,-0.8; T29 11.2,-0.8; U1 -11.2,-1.6; U2 -10.4,-1.6; U3 -9.6,-1.6; U4 -8.8,-1.6; U5 -8,-1.6; U6 -7.2,-1.6; U7 -6.4,-1.6; U8 -5.6,-1.6; U9 -4.8,-1.6; U10 -4,-1.6; U11 -3.2,-1.6; U12 -2.4,-1.6; U13 -1.6,-1.6; U14 -0.8,-1.6; U15 0,-1.6; U16 0.8,-1.6; U17 1.6,-1.6; U18 2.4,-1.6; U19 3.2,-1.6; U20 4,-1.6; U21 4.8,-1.6; U22 5.6,-1.6; U23 6.4,-1.6; U24 7.2,-1.6; U25 8,-1.6; U26 8.8,-1.6; U27 9.6,-1.6; U28 10.4,-1.6; U29 11.2,-1.6; V1 -11.2,-2.4; V2 -10.4,-2.4; V3 -9.6,-2.4; V4 -8.8,-2.4; V5 -8,-2.4; V6 -7.2,-2.4; V7 -6.4,-2.4; V8 -5.6,-2.4; V9 -4.8,-2.4; V10 -4,-2.4; V11 -3.2,-2.4; V12 -2.4,-2.4; V13 -1.6,-2.4; V14 -0.8,-2.4; V15 0,-2.4; V16 0.8,-2.4; V17 1.6,-2.4; V18 2.4,-2.4; V19 3.2,-2.4; V20 4,-2.4; V21 4.8,-2.4; V22 5.6,-2.4; V23 6.4,-2.4; V24 7.2,-2.4; V25 8,-2.4; V26 8.8,-2.4; V27 9.6,-2.4; V28 10.4,-2.4; V29 11.2,-2.4; W1 -11.2,-3.2; W2 -10.4,-3.2; W3 -9.6,-3.2; W4 -8.8,-3.2; W5 -8,-3.2; W6 -7.2,-3.2; W7 -6.4,-3.2; W8 -5.6,-3.2; W9 -4.8,-3.2; W10 -4,-3.2; W11 -3.2,-3.2; W12 -2.4,-3.2; W13 -1.6,-3.2; W14 -0.8,-3.2; W15 0,-3.2; W16 0.8,-3.2; W17 1.6,-3.2; W18 2.4,-3.2; W19 3.2,-3.2; W20 4,-3.2; W21 4.8,-3.2; W22 5.6,-3.2; W23 6.4,-3.2; W24 7.2,-3.2; W25 8,-3.2; W26 8.8,-3.2; W27 9.6,-3.2; W28 10.4,-3.2; W29 11.2,-3.2; Y1 -11.2,-4; Y2 -10.4,-4; Y3 -9.6,-4; Y4 -8.8,-4; Y5 -8,-4; Y6 -7.2,-4; Y7 -6.4,-4; Y8 -5.6,-4; Y9 -4.8,-4; Y10 -4,-4; Y11 -3.2,-4; Y12 -2.4,-4; Y13 -1.6,-4; Y14 -0.8,-4; Y15 0,-4; Y16 0.8,-4; Y17 1.6,-4; Y18 2.4,-4; Y19 3.2,-4; Y20 4,-4; Y21 4.8,-4; Y22 5.6,-4; Y23 6.4,-4; Y24 7.2,-4; Y25 8,-4; Y26 8.8,-4; Y27 9.6,-4; Y28 10.4,-4; Y29 11.2,-4